# Altium schematic symbol library distribution amp_1.schlib: 19 symbols
Pins are listed as number, name and electrical type; pins without a type are passive.

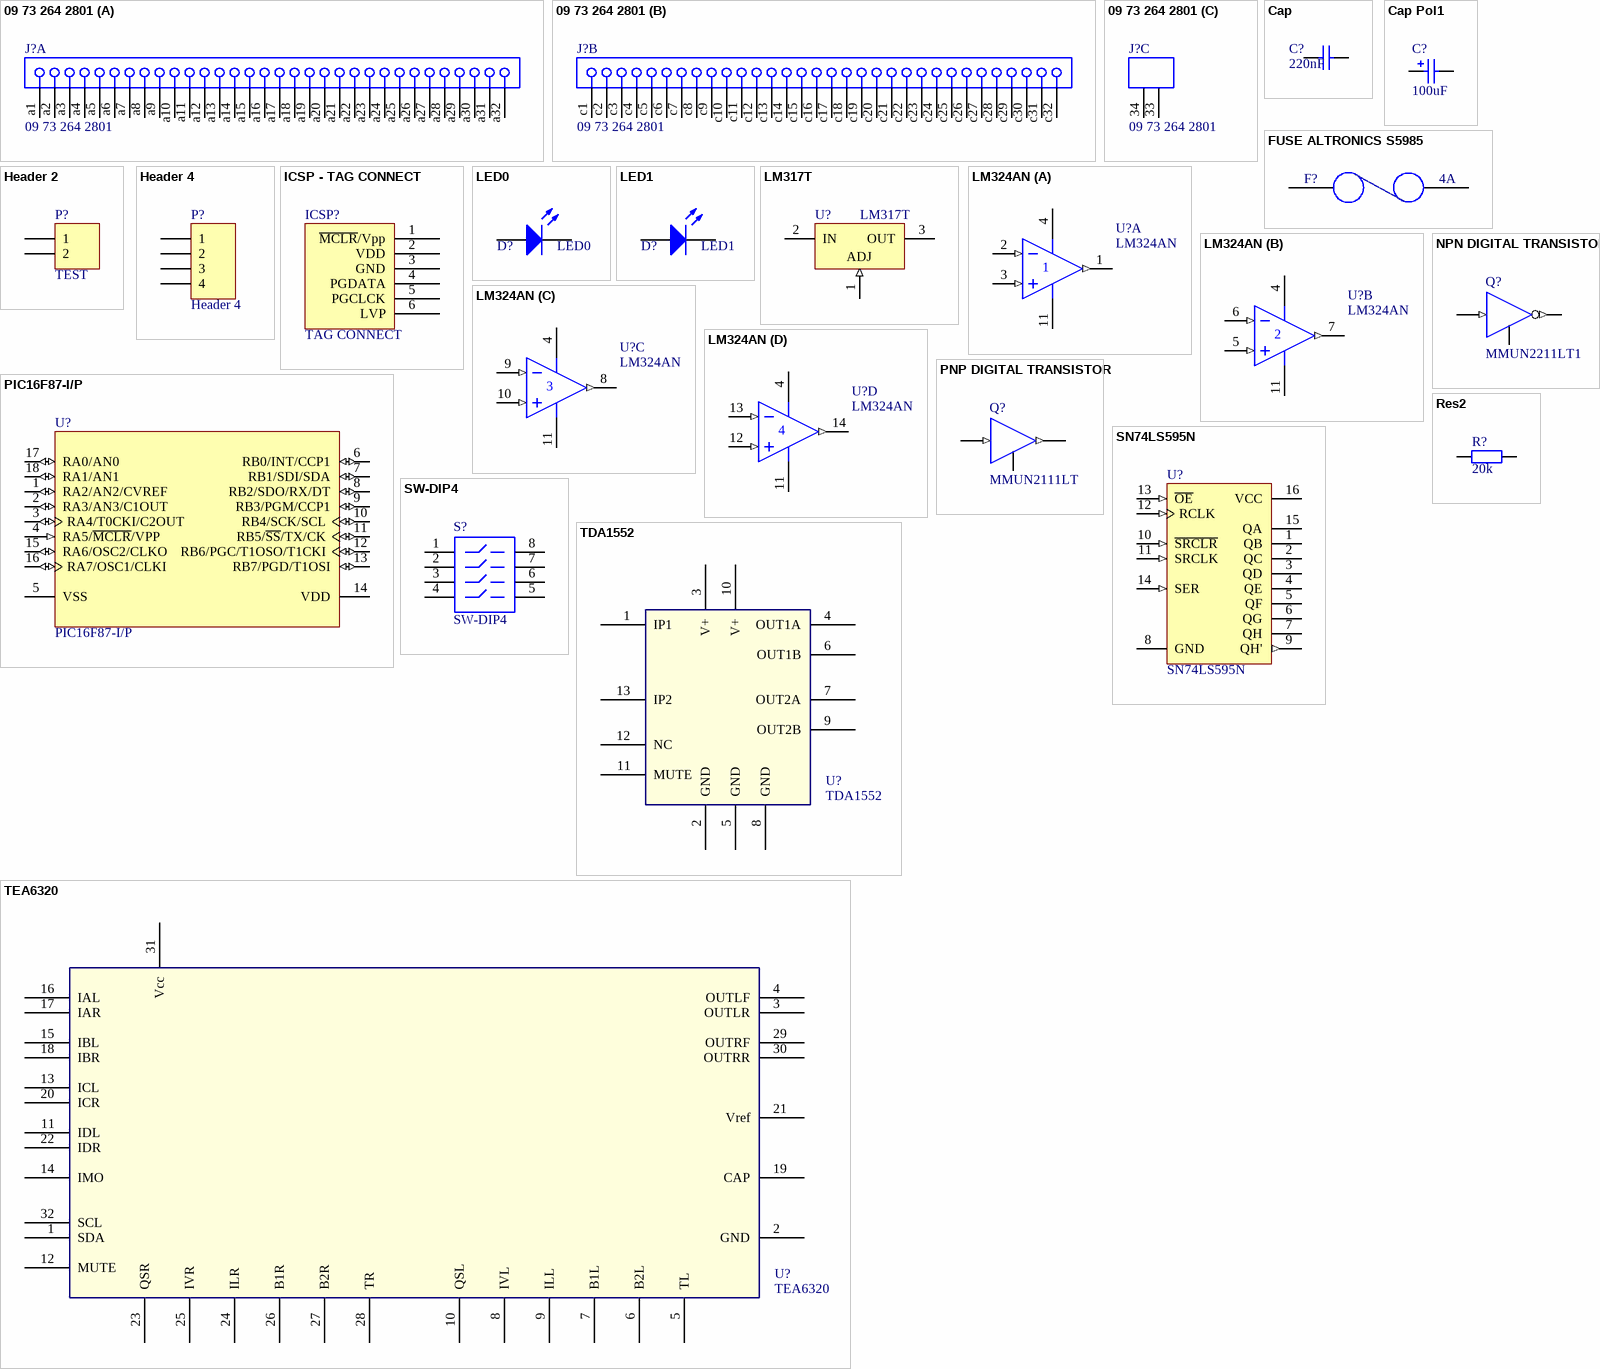
[diagram p0: symbols 09 73 264 2801 to TEA6320]

## 09 73 264 2801
designator J?
Eurocard DIN 41612, Type R, 64 Position, Rows a+c, Performance level 1, Female, Lead 3.0 mm, Pitch 2.54 mm; DrillSize: Corresponds to nominal value.; Published: 6-Oct-2005; DatasheetDocument: 24-Nov-2004; PackageDocument: 17-Aug-1998; PackageReference: 0973264X801; Publisher: Altium Limited; ComponentLink1Description: Manufacturer Link; ComponentLink1URL: http://www.harting.com/; ComponentLink2Description: Packaging Specification; ComponentLink2URL: http://www.harkis.harting.com/_gds/pdf/TB_0973264x801_BL01_R31100.pdf
footprint 0973264X801 (Connector; DIN 41612, Type R, Thru-Hole; Rows a+c, 64 Position; Right Angle)
signal-integrity model DIN 41612
part A pins: a1, a2, a3, a4, a5, a6, a7, a8, a9, a10, a11, a12, a13, a14, a15, a16, a17, a18, a19, a20, a21, a22, a23, a24, a25, a26, a27, a28, a29, a30, a31, a32
part B pins: c1, c2, c3, c4, c5, c6, c7, c8, c9, c10, c11, c12, c13, c14, c15, c16, c17, c18, c19, c20, c21, c22, c23, c24, c25, c26, c27, c28, c29, c30, c31, c32
part C pins: 33 MH1 "Mounting Fixture", 34 MH2 "Mounting Fixture"

## Cap
designator C?  value 220nF  (hidden comment: Cap)
Capacitor; Published: 8-Jun-2000; LatestRevisionDate: 17-Jul-2002; LatestRevisionNote: Re-released for DXP Platform.; PackageReference: RAD-0.3; Publisher: Altium Limited
footprint RAD-0.3 (Capacitor; 2 Leads)
footprint VP32-3.2 (Capacitor, Ceramic, Thru-Hole, Dipped Radial; Body 5.1 x 3.2 mm (WxT) Pin Spacing 2.54 mm (typ))
footprint VP45-3.2 (Capacitor, Ceramic, Thru-Hole, Dipped Radial; Body 7.8 x 3.2 mm (WxT) Pin Spacing 5.08 mm (typ))
simulation model CAP (Capacitor)
signal-integrity model Cap
footprint CAP_100
footprint CAP (3D) - 0603
pins: 1, 2

## Cap Pol1
designator C?  value 100uF  (hidden comment: Cap Pol1)
Polarized Capacitor (Radial); Published: 8-Jun-2000; LatestRevisionDate: 17-Jul-2002; LatestRevisionNote: Re-released for DXP Platform.; PackageReference: RB7.6-15; Publisher: Altium Limited
footprint RB7.6-15 (Polarized Capacitor (Radial); 2 Leads)
footprint HA-C1 (Capacitor, Radial, Tantalum; Body 1.7 x 2.8 mm (Dia.xH max); Pin Spacing 1.27 mm (typ))
footprint A (Capacitor, Electrolytic, Radial; Body 4 x 5 mm (Dia.xH typ); Pin Spacing 1.5 mm (typ))
footprint B (Capacitor, Electrolytic, Radial; Body 5 x 6.8 mm (Dia.xH typ); Pin Spacing 2 mm (typ))
footprint CAPPR5-5x5 (Capacitor, Electrolytic, Radial; Body 5 x 5 mm (Dia.xH typ); Pin Spacing 5 mm (typ))
footprint CAPPR7.5-16x35 (Capacitor, Electrolytic, Radial; Body 16 x 35 mm (Dia.xH typ); Pin Spacing 7.5 mm (typ))
simulation model CAP (Capacitor)
signal-integrity model Cap Pol
pins: 1, 2
1 alternate drawing of the same symbol

## FUSE ALTRONICS S5985
designator F?, comment 4A
footprint FUSE ALTRONICS S5985
pins: 1, 2

## Header 2
designator P?, comment TEST
Header, 2-Pin; Manufacturer: Bourns; Manufacturer Part No.: CR0603-FX-5900ELF; value: 590R; Mouser Part no.: 652-CR0603FX-5900ELF; Web link: http://au.mouser.com/Search/Refine.aspx?Keyword=652-CR0603FX-5900ELF
footprint HDR1X2 (Connector; Header; 2 Position)
signal-integrity model Connector
pins: 1, 2

## Header 4
designator P?
Header, 4-Pin; LatestRevisionDate: 17-Jul-2002; LatestRevisionNote: Re-released for DXP Platform.; Publisher: Altium Limited
footprint HDR1X4 (Connector; Header; 4 Position)
signal-integrity model Connector
pins: 1, 2, 3, 4

## ICSP - TAG CONNECT
designator ICSP?, comment TAG CONNECT
Manufacturer: N/A - PCB ARTWORK; Manufacturer Part No.: N/A; Mouser Part no.: N/A; Web link: N/A - PCB ARTWORK
footprint ICSP - TAG CONNECT
footprint ICSP - TAG CONNECT TYPE2 (ICSP - TAG CONNECT - TYPE 2)
pins: 1 ~{MCLR}/Vpp, 2 VDD, 3 GND, 4 PGDATA, 5 PGCLCK, 6 LVP

## LED0
designator D?
Typical INFRARED GaAs LED; Published: 8-Jun-2000; LatestRevisionDate: 08-Jul-2005; LatestRevisionNote: Mech Layer 1 removed.; PackageReference: LED-0; Publisher: Altium Limited
footprint LED 3MM
simulation model LED0 (Diode)
pins: 1 A, 2 K

## LED1
designator D?
Typical RED GaAs LED; Published: 8-Jun-2000; LatestRevisionDate: 08-Jul-2005; LatestRevisionNote: Mech Layer 1 removed.; PackageReference: LED-1; Publisher: Altium Limited
footprint LED-1 (Typical RED GaAs LED; 2 Leads)
simulation model LED1 (Diode)
footprint LED 3MM
pins: 1 A, 2 K

## LM317T
designator U?
1.2V to 37V Voltage Regulator; Note: Tab is connected to pin 3 (OUT).; Published: 24-Aug-2001; LatestRevisionDate: 17-Jul-2002; LatestRevisionNote: Re-released for DXP Platform.; DatasheetVersion: Nov-1999; PackageVersion: Jun-1998; PackageReference: TO220ABN; Publisher: Altium Limited; PackageDescription: TO, Thru-Hole, Vertical, Heatsink Mounted; 3 In-Line Leads; Pitch 2.54 mm; Pin sequence 1, 3, 2; ComponentLink1Description: Manufacturer Link; ComponentLink1URL: http://www.st.com/; ComponentLink2Description: Datasheet; ComponentLink2URL: http://www.st.com/stonline/products/literature/ds/2154/lm117.pdf
footprint TO220ABN (TO, Thru-Hole, Vertical, Heatsink Mounted; 3 In-Line Leads; Pitch 2.54 mm; Pin sequence 1, 3, 2)
pins: 1 ADJ (in), 2 IN (power), 3 OUT (power)

## LM324AN
designator U?
Quadruple Operational Amplifier; Published: 15-Apr-2002; LatestRevisionDate: 04-Mar-2005; LatestRevisionNote: Stylized 3D Model Added.; DatasheetVersion: Jan-1989; PackageVersion: Oct-1995; PackageReference: N014; Publisher: Altium Limited; PackageDescription: DIP; 14 Leads; Row Spacing 7.62 mm; Pitch 2.54 mm; ComponentLink1Description: Manufacturer Link; ComponentLink1URL: http://www.ti.com/; ComponentLink2Description: Datasheet; ComponentLink2URL: http://www-s.ti.com/sc/ds/lm324.pdf
footprint N014 (DIP; 14 Leads; Row Spacing 7.62 mm; Pitch 2.54 mm)
3D model N014 (DIP; 14 Leads; Row Spacing 7.62 mm; Pitch 2.54 mm)
pins on every part: 4 V+ (power), 11 V- (power)
part A pins: 1 OUT (out), 2 IN- (in), 3 IN+ (in)
part B pins: 5 IN+ (in), 6 IN- (in), 7 OUT (out)
part C pins: 8 OUT (out), 9 IN- (in), 10 IN+ (in)
part D pins: 12 IN+ (in), 13 IN- (in), 14 OUT (out)

## NPN DIGITAL TRANSISTOR
designator Q?, comment MMUN2211LT1
Manufacturer: Bourns; Manufacturer Part No.: CR0603-JW-102ELF; value: 1k; Mouser Part no.: 652-CR0603-JW-102ELF; Farnell Part no.: 9556648RL; Web link: http://au.mouser.com/ProductDetail/Bourns/CR0603-JW-102ELF/?qs=sGAEpiMZZMu61qfTUdNhG2nPoCjtvs%252bRXTOJv8O9Kbk%3d
footprint SOT23-3L (SOT23, 3-Leads, Body 2.9x1.3mm, Pitch 0.95mm, Lead Span 2.5mm, IPC High Density)
pins: 1 B (in), 2 E, 3 C (out)

## PIC16F87-I/P
designator U?
Enhanced FLASH Microcontroller with nanoWatt Technology, 4K (x14-Bit words) FLASH, 368 Bytes RAM, 18-Pin PDIP, Standard VDD Range, Industrial Temperature; Note: 25mA source/sink per I/O.; Note: The CCP1 pin is determined by CCPMX in Configuration Word 1 register.; Published: 11-Oct-2004; LatestRevisionDate: 04-Mar-2005; LatestRevisionNote: Stylized 3D Model Added.; DatasheetVersion: DS30487B_2003; PackageVersion: 2003; PackageReference: PDIP300-18; Publisher: Altium Limited; PackageDescription: DIP, Plastic; 18 Leads; Row Spacing 7.62 mm; Pitch 2.54 mm; Code_JEDEC: MS-001; ComponentLink1Description: Manufacturer Link; ComponentLink1URL: http://www.microchip.com; ComponentLink2Description: Datasheet; ComponentLink2URL: http://ww1.microchip.com/downloads/en/DeviceDoc/30487b.pdf; ComponentLink3Description: Packaging Specification; ComponentLink3URL: http://ww1.microchip.com/downloads/en/PackagingSpec/00049AD.pdf
footprint PDIP300-18 (DIP, Plastic; 18 Leads; Row Spacing 7.62 mm; Pitch 2.54 mm)
3D model PDIP300-18 (DIP, Plastic; 18 Leads; Row Spacing 7.62 mm; Pitch 2.54 mm)
pins: 1 RA2/AN2/CVREF (io), 2 RA3/AN3/C1OUT (io), 3 RA4/T0CKI/C2OUT (io), 4 RA5/~{MCLR}/VPP (in), 5 VSS (power), 6 RB0/INT/CCP1 (io), 7 RB1/SDI/SDA (io), 8 RB2/SDO/RX/DT (io), 9 RB3/PGM/CCP1 (io), 10 RB4/SCK/SCL (io), 11 RB5/~{SS}/TX/CK (io), 12 RB6/PGC/T1OSO/T1CKI (io), 13 RB7/PGD/T1OSI (io), 14 VDD (power), 15 RA6/OSC2/CLKO (io), 16 RA7/OSC1/CLKI (io), 17 RA0/AN0 (io), 18 RA1/AN1 (io)

## PNP DIGITAL TRANSISTOR
designator Q?, comment MMUN2111LT
MMUN2211LT1; Manufacturer: Bourns
footprint SOT23-3L (SOT23, 3-Leads, Body 2.9x1.3mm, Pitch 0.95mm, Lead Span 2.5mm, IPC High Density)
pins: 1 B (in), 2 E, 3 C (out)

## Res2
designator R?  value 20k  (hidden comment: Res2)
Resistor; Published: 8-Jun-2000; LatestRevisionDate: 17-Jul-2002; LatestRevisionNote: Re-released for DXP Platform.; PackageReference: AXIAL-0.4; Publisher: Altium Limited
simulation model RESISTOR (Resistor)
signal-integrity model Res
footprint RES (3D) - 0603
pins: 1, 2

## SN74LS595N
designator U?
8-Bit Shift Register with Output Latch; Published: 8-Jun-2000; LatestRevisionDate: 04-Mar-2005; LatestRevisionNote: Stylized 3D Model Added.; DatasheetVersion: Mar-1988; PackageVersion: Oct-1995; PackageReference: N016; Publisher: Altium Limited; PackageDescription: DIP; 16 Leads; Row Spacing 7.62 mm; Pitch 2.54 mm; Code_JEDEC: MS-001-BB; ComponentLink1Description: Manufacturer Link; ComponentLink1URL: http://www.ti.com/; ComponentLink2Description: Datasheet; ComponentLink2URL: http://www-s.ti.com/sc/ds/sn74ls596.pdf
footprint N016 (DIP; 16 Leads; Row Spacing 7.62 mm; Pitch 2.54 mm)
3D model N016 (DIP; 16 Leads; Row Spacing 7.62 mm; Pitch 2.54 mm)
signal-integrity model SN74LS595N
pins: 1 QB (hiz), 2 QC (hiz), 3 QD (hiz), 4 QE (hiz), 5 QF (hiz), 6 QG (hiz), 7 QH (hiz), 8 GND (power), 9 QH' (out), 10 ~{SRCLR} (in), 11 SRCLK (in), 12 RCLK (in), 13 ~{OE} (in), 14 SER (in), 15 QA (hiz), 16 VCC (power)

## SW-DIP4
designator S?
DIP Switch; Published: 24-Mar-1999; LatestRevisionDate: 17-Jul-2002; LatestRevisionNote: Re-released for DXP Platform.; PackageReference: DIP-8; Publisher: Altium Limited
footprint DIP-8 (DIP; 8 Leads; Row Spacing 7.62 mm; Pitch 2.54 mm)
simulation model dpsw4 (Spice Subcircuit)
pins: 1, 2, 3, 4, 5, 6, 7, 8

## TDA1552
designator U?
footprint DBS13P
pins: 1 IP1, 2 GND, 3 V+, 4 OUT1A, 5 GND, 6 OUT1B, 7 OUT2A, 8 GND, 9 OUT2B, 10 V+, 11 MUTE, 12 NC, 13 IP2

## TEA6320
designator U?
TEA6320 SOUND FADER CONTROL
footprint DIP32
footprint SOIC127P1047-32L (SOIC, 32-Leads, Body 20.8x7.5mm, Pitch 1.27mm, IPC High Density)
pins: 1 SDA, 2 GND, 3 OUTLR, 4 OUTLF, 5 TL, 6 B2L, 7 B1L, 8 IVL, 9 ILL, 10 QSL, 11 IDL, 12 MUTE, 13 ICL, 14 IMO, 15 IBL, 16 IAL, 17 IAR, 18 IBR, 19 CAP, 20 ICR, 21 Vref, 22 IDR, 23 QSR, 24 ILR, 25 IVR, 26 B1R, 27 B2R, 28 TR, 29 OUTRF, 30 OUTRR, 31 Vcc, 32 SCL